# Altium schematic symbol library WirelessModule.SchLib: 4 symbols
Pins are listed as number, name and electrical type; pins without a type are passive.

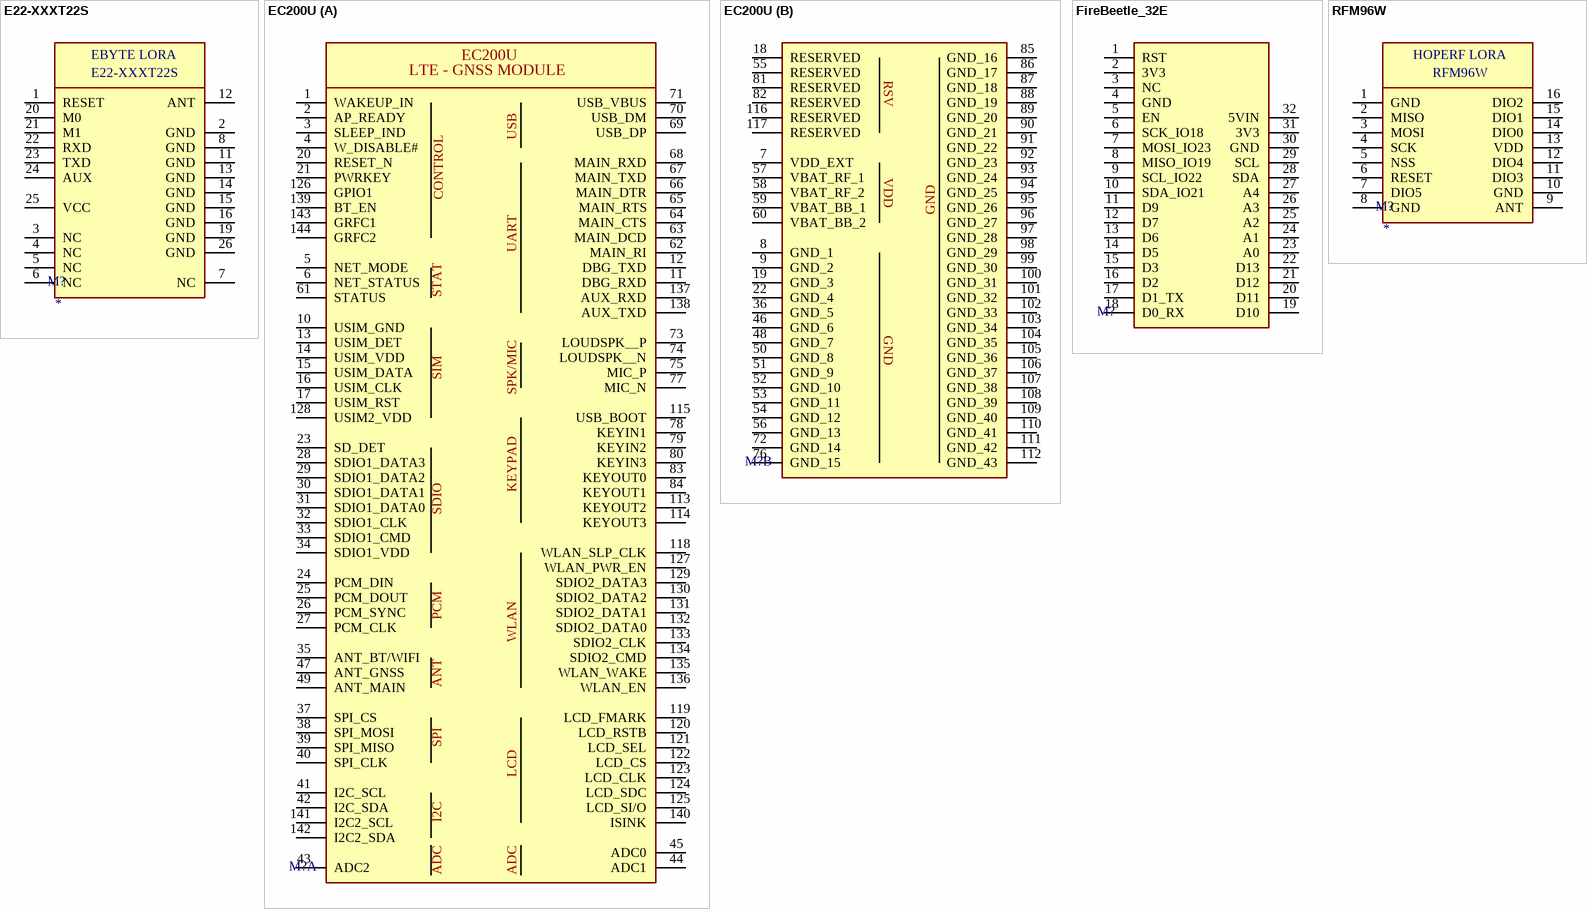
[diagram p0: symbols E22-XXXT22S to RFM96W]

## E22-XXXT22S
designator M?
E22 EByte LoRa Module; Manufacturer 1: *; Manufacturer Part Number 1: *; Value: *
footprint E22-XXXT22S
pins: 1 RESET, 2 GND, 3 NC, 4 NC, 5 NC, 6 NC, 7 NC, 8 GND, 11 GND, 12 ANT, 13 GND, 14 GND, 15 GND, 16 GND, 19 GND, 20 M0, 21 M1, 22 RXD, 23 TXD, 24 AUX, 25 VCC, 26 GND
text: EBYTE LORA

## EC200U
designator M?
LTE CAT1 MODEM 144 SMD; Manufacturer 1: Quectel; Value: *; Manufacturer Part Number 1: *
footprint EC200U (LTE CAT1 MODEM 144 SMD)
part A pins: 1 WAKEUP_IN, 2 AP_READY, 3 SLEEP_IND, 4 W_DISABLE#, 5 NET_MODE, 6 NET_STATUS, 10 USIM_GND, 11 DBG_RXD, 12 DBG_TXD, 13 USIM_DET, 14 USIM_VDD, 15 USIM_DATA, 16 USIM_CLK, 17 USIM_RST, 20 RESET_N, 21 PWRKEY, 23 SD_DET, 24 PCM_DIN, 25 PCM_DOUT, 26 PCM_SYNC, 27 PCM_CLK, 28 SDIO1_DATA3, 29 SDIO1_DATA2, 30 SDIO1_DATA1, 31 SDIO1_DATA0, 32 SDIO1_CLK, 33 SDIO1_CMD, 34 SDIO1_VDD, 35 ANT_BT/WIFI, 37 SPI_CS, 38 SPI_MOSI, 39 SPI_MISO, 40 SPI_CLK, 41 I2C_SCL, 42 I2C_SDA, 43 ADC2, 44 ADC1, 45 ADC0, 47 ANT_GNSS, 49 ANT_MAIN, 61 STATUS, 62 MAIN_RI, 63 MAIN_DCD, 64 MAIN_CTS, 65 MAIN_RTS, 66 MAIN_DTR, 67 MAIN_TXD, 68 MAIN_RXD, 69 USB_DP, 70 USB_DM, 71 USB_VBUS, 73 LOUDSPK__P, 74 LOUDSPK__N, 75 MIC_P, 77 MIC_N, 78 KEYIN1, 79 KEYIN2, 80 KEYIN3, 83 KEYOUT0, 84 KEYOUT1, 113 KEYOUT2, 114 KEYOUT3, 115 USB_BOOT, 118 WLAN_SLP_CLK, 119 LCD_FMARK, 120 LCD_RSTB, 121 LCD_SEL, 122 LCD_CS, 123 LCD_CLK, 124 LCD_SDC, 125 LCD_SI/O, 126 GPIO1, 127 WLAN_PWR_EN, 128 USIM2_VDD, 129 SDIO2_DATA3, 130 SDIO2_DATA2, 131 SDIO2_DATA1, 132 SDIO2_DATA0, 133 SDIO2_CLK, 134 SDIO2_CMD, 135 WLAN_WAKE, 136 WLAN_EN, 137 AUX_RXD, 138 AUX_TXD, 139 BT_EN, 140 ISINK, 141 I2C2_SCL, 142 I2C2_SDA, 143 GRFC1, 144 GRFC2
part B pins: 7 VDD_EXT, 8 GND_1, 9 GND_2, 18 RESERVED, 19 GND_3, 22 GND_4, 36 GND_5, 46 GND_6, 48 GND_7, 50 GND_8, 51 GND_9, 52 GND_10, 53 GND_11, 54 GND_12, 55 RESERVED, 56 GND_13, 57 VBAT_RF_1, 58 VBAT_RF_2, 59 VBAT_BB_1, 60 VBAT_BB_2, 72 GND_14, 76 GND_15, 81 RESERVED, 82 RESERVED, 85 GND_16, 86 GND_17, 87 GND_18, 88 GND_19, 89 GND_20, 90 GND_21, 91 GND_22, 92 GND_23, 93 GND_24, 94 GND_25, 95 GND_26, 96 GND_27, 97 GND_28, 98 GND_29, 99 GND_30, 100 GND_31, 101 GND_32, 102 GND_33, 103 GND_34, 104 GND_35, 105 GND_36, 106 GND_37, 107 GND_38, 108 GND_39, 109 GND_40, 110 GND_41, 111 GND_42, 112 GND_43, 116 RESERVED, 117 RESERVED
part A text: LTE - GNSS MODULE; USB; CONTROL; UART; STAT; SIM; SPK/MIC; KEYPAD; SDIO; PCM; WLAN; ANT; SPI; LCD; I2C; ADC
part B text: RSV; VDD; GND

## FireBeetle_32E
designator M?
FIREBEETLE ESP32-E IOT MICROCONT; Manufacturer 1: DFRobot; Manufacturer Part Number 1: DFR0654
footprint DFR0654 (FIREBEETLE ESP32-E IOT MICROCONT)
pins: 1 RST, 2 3V3, 3 NC, 4 GND, 5 EN, 6 SCK_IO18, 7 MOSI_IO23, 8 MISO_IO19, 9 SCL_IO22, 10 SDA_IO21, 11 D9, 12 D7, 13 D6, 14 D5, 15 D3, 16 D2, 17 D1_TX, 18 D0_RX, 19 D10, 20 D11, 21 D12, 22 D13, 23 A0, 24 A1, 25 A2, 26 A3, 27 A4, 28 SDA, 29 SCL, 30 GND, 31 3V3, 32 5VIN

## RFM96W
designator M?
LoRa 868MHz SX1276 RF Transreceiver Module RFM96W /; Manufacturer 1: *; Manufacturer Part Number 1: *; Value: *
footprint RFM96W (LoRa 868MHz SX1276 RF Transreceiver Module RFM96W)
pins: 1 GND, 2 MISO, 3 MOSI, 4 SCK, 5 NSS, 6 RESET, 7 DIO5, 8 GND, 9 ANT, 10 GND, 11 DIO3, 12 DIO4, 13 VDD, 14 DIO0, 15 DIO1, 16 DIO2
text: HOPERF LORA